# EAGLE library part DSPIC33FJ33GP802 (library senior_design)
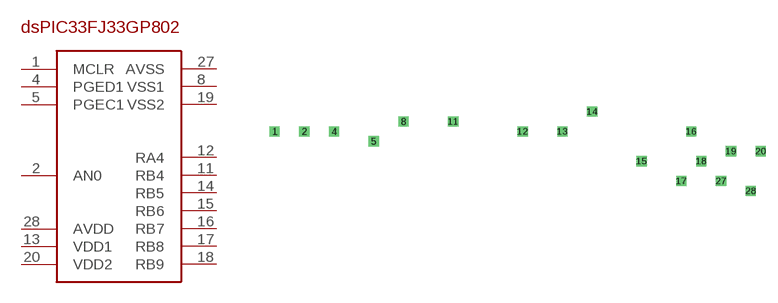
[diagram p0: symbol with the pads of DIP28; footprint DIP28]

Designator prefix -

## DSPIC33FJ33GP802  [DIP28]
1  MCLR
2  AN0
4  PGED1
5  PGEC1
8  VSS1
11  RB4
12  RA4
13  VDD1
14  RB5
15  RB6
16  RB7
17  RB8
18  RB9
19  VSS2
20  VDD2
27  AVSS
28  AVDD

## Footprint DIP28 (pad centres in mm)
drill 0.8 square: 1 -33.02,3.81; 2 -29.21,3.81; 4 -25.4,3.81; 5 -20.32,2.54; 8 -16.51,5.08; 11 -10.16,5.08; 12 -1.27,3.81; 13 3.81,3.81; 14 7.62,6.35; 15 13.97,0; 16 20.32,3.81; 17 19.05,-2.54; 18 21.59,0; 19 25.4,1.27; 20 29.21,1.27; 27 24.13,-2.54; 28 27.94,-3.81